# EAGLE library part 1365-18 (library con-leotronics)
DUAL ROW STRAIGHT HEADER 1364 SERIES. 1.27mm x 1.27mm. Without Fixing Post. SMT Source: http://www.leotronics.co.uk/Conexcon/Data%20Sheets/sec.%20A/1364ing.pdf
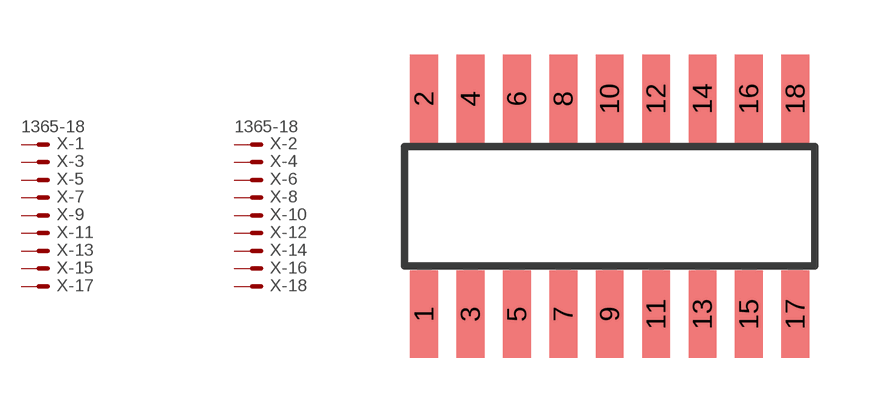
[diagram p32: symbol with the pads of 1365-18; footprint 1365-18]

Designator prefix X; gates -1=MVAL -2=MVAL -3=M -4=M -5=M -6=M -7=M -8=M -9=M -10=M -11=M -12=M -13=M -14=M -15=M -16=M -17=M -18=M

## 1365-18 (OC_FARNELL: unknown; OC_NEWARK: unknown)  [1365-18]
1  -1:S  pas
2  -2:S  pas
3  -3:S  pas
4  -4:S  pas
5  -5:S  pas
6  -6:S  pas
7  -7:S  pas
8  -8:S  pas
9  -9:S  pas
10  -10:S  pas
11  -11:S  pas
12  -12:S  pas
13  -13:S  pas
14  -14:S  pas
15  -15:S  pas
16  -16:S  pas
17  -17:S  pas
18  -18:S  pas

## Footprint 1365-18 (pad centres in mm)
DUAL ROW STRAIGHT HEADER 1364 SERIES. 1.27mm x 1.27mm. Without Fixing Post. SMT Source: http://www.leotronics.co.uk/Conexcon/Data%20Sheets/sec.%20A/1364ing.pdf
smd 0.76 x 2.4: 1 -5.08,-2.95; 2 -5.08,2.95; 3 -3.81,-2.95; 4 -3.81,2.95; 5 -2.54,-2.95; 6 -2.54,2.95; 7 -1.27,-2.95; 8 -1.27,2.95; 9 0,-2.95; 10 0,2.95; 11 1.27,-2.95; 12 1.27,2.95; 13 2.54,-2.95; 14 2.54,2.95; 15 3.81,-2.95; 16 3.81,2.95; 17 5.08,-2.95; 18 5.08,2.95